# Altium schematic symbol library SCH - CONNECTORS - WURTH - 61300911121.SCHLIB: 1 symbol
Pins are listed as number, name and electrical type; pins without a type are passive.

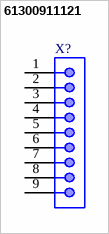
[diagram p0: symbol 61300911121]

## 61300911121
designator X?
WR-PHD Pin Header, THT, pitch 2.54mm, Single Row, Vertical, 9p
pins: 1, 2, 3, 4, 5, 6, 7, 8, 9